# EAGLE library part 20021121-00010C4LF (library 20021121-00010C4LF)
Headers & Wire Housings 1.27x1.27mm BTB, Hdr Unshrd, SMT, 10 Pos Source: Datasheet <https://cdn.amphenol-cs.com/media/wysiwyg/files/drawing/20021121.pdf>
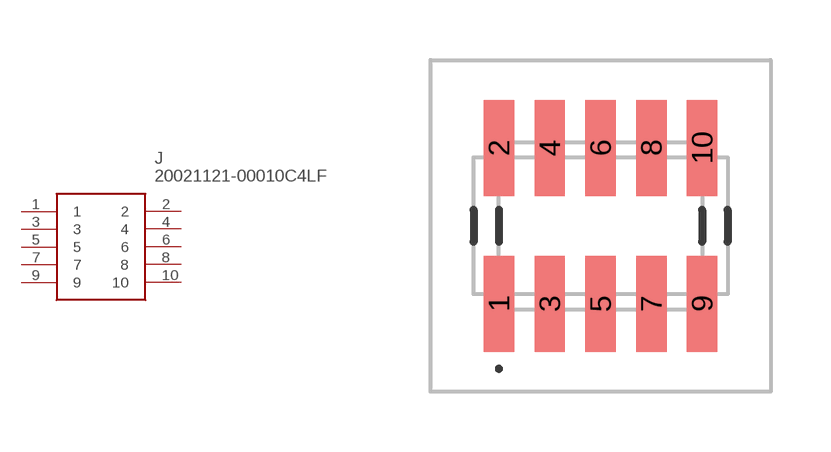
[diagram p0: symbol with the pads of 2002112100010C4LF; footprint 2002112100010C4LF]

Designator prefix J

## 20021121-00010C4LF (Description: Headers & Wire Housings 1.27x1.27mm BTB, Hdr Unshrd, SMT, 10 Pos; Height: 5.7mm; Manufacturer_Name: Amphenol; Manufacturer_Part_Number: 20021121-00010C4LF; Mouser_Part_Number: 649-202112100010C4LF; Mouser_Price-Stock: https://www.mouser.co.uk/ProductDetail/Amphenol-FCI/20021121-00010C4LF?qs=iIVTEDlrHA1ddfCJGH4Nhg%3D%3D)  [2002112100010C4LF]
1  1
2  2
3  3
4  4
5  5
6  6
7  7
8  8
9  9
10  10

## Footprint 2002112100010C4LF (pad centres in mm)
20021121-00010C4LF-2
smd 0.76 x 2.4: 1 -2.54,-1.95; 2 -2.54,1.95; 3 -1.27,-1.95; 4 -1.27,1.95; 5 0,-1.95; 6 0,1.95; 7 1.27,-1.95; 8 1.27,1.95; 9 2.54,-1.95; 10 2.54,1.95